# Altium schematic symbol library 1uF_Samsung_Cap.SchLib: 1 symbol
Pins are listed as number, name and electrical type; pins without a type are passive.

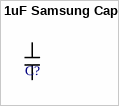
[diagram p0: symbol 1uF Samsung Cap]

## 1uF Samsung Cap
designator C?  (value not drawn)
1uF Samsung Cap; Supplier 1: Digi-Key; Supplier Part Number 1: 1276-1946-1-ND
footprint CAPC1608X09M (Chip Capacitor, 2-Leads, Body 1.60x0.80mm, IPC Low Density)
pins: 1, 2